# Altium footprint library CAPMP6032X190N.PcbLib: 1 footprints
Each footprint in its own frame and in the unit in brackets; x right, y up, seen from the top. Pads: shape width x height; smd on the part's side, far side on the other; paste and mask are expansions set on the pad; w line width, h text height; cw(c..) or ccw(c..) is an arc to the next point about the centre after c.
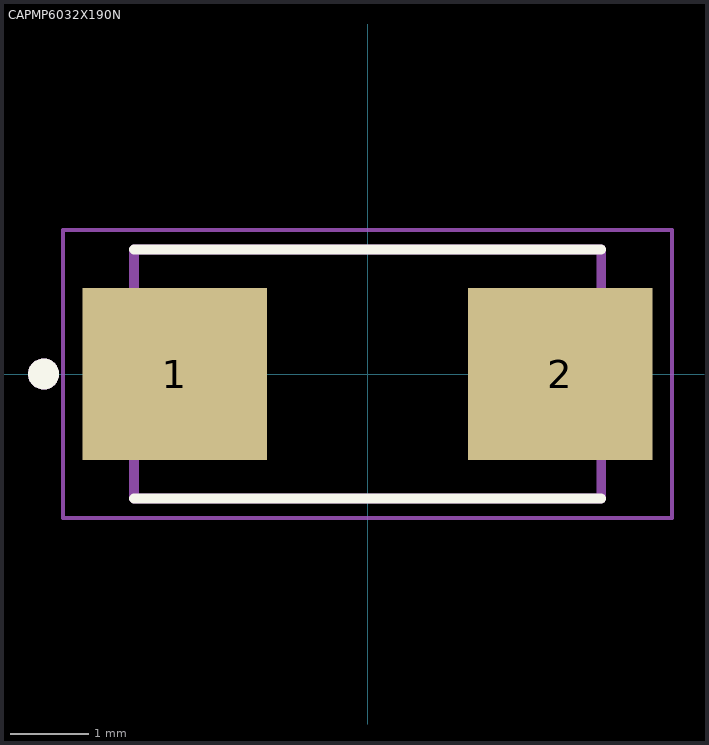
[diagram p0: the footprint, top view; thin cyan lines are the x and y axes]

## CAPMP6032X190N [mm]
pads (2):
  rect 2.37x2.21 smd: 1(-2.475,0) 2(2.475,0)
Top Overlay:
  circle w0.2: c-4.16,0 r0.1
  lines w0.127: -3,-1.6 3,-1.6 ; -3,1.6 3,1.6
Mechanical 13:
  circle w0.2: c-4.16,0 r0.1
  lines w0.127: -3,-1.6 -3,1.6 3,1.6 3,-1.6 -3,-1.6
Mechanical 15:
  lines w0.05: -3.91,-1.85 -3.91,1.85 3.91,1.85 3.91,-1.85 -3.91,-1.85
3D body "step_temp.STEP": height 1.9, standoff 0, extent -3,-1.6 3,1.6